# Altium schematic symbol library FG28C0G1H100DNT06.SchLib: 2 symbols
Pins are listed as number, name and electrical type; pins without a type are passive.

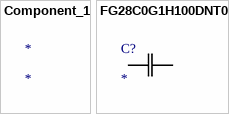
[diagram p0: symbols Component_1 to FG28C0G1H100DNT06]

## Component_1
designator *

## FG28C0G1H100DNT06
designator C?
No Description Available; Mfr_Name: TDK
footprint CAP_FG28_TDK
pins: 1, 2